# EAGLE library part MAX6921 (library FHD-Actives)
MAX6921 - VFD Driver (20 outputs)
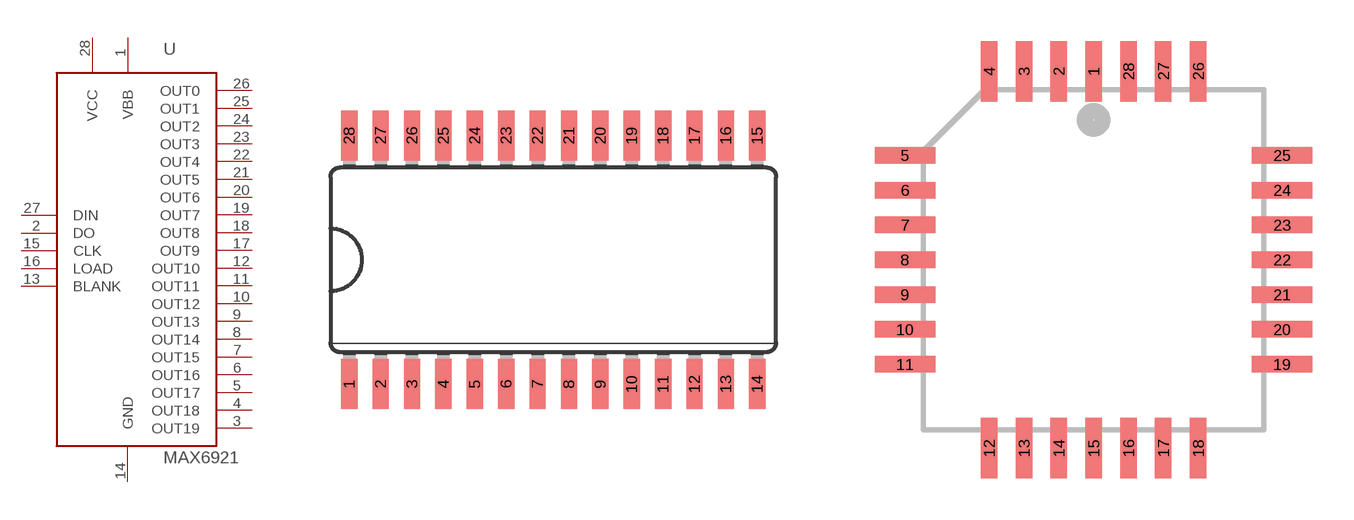
[diagram p1: symbol with the pads of SO-28W; footprints SO-28W, PLCC28S]

Designator prefix -

## MAX6921AWI  [SO-28W]
1  VBB  pwr
2  DO  in
3  OUT19
4  OUT18
5  OUT17
6  OUT16
7  OUT15
8  OUT14
9  OUT13
10  OUT12
11  OUT11
12  OUT10
13  BLANK  in
14  GND
15  CLK  in
16  LOAD  in
17  OUT9
18  OUT8
19  OUT7
20  OUT6
21  OUT5
22  OUT4
23  OUT3
24  OUT2
25  OUT1
26  OUT0
27  DIN  in
28  VCC  pwr

## MAX6921AQI  [PLCC28S]
Pads as for SO-28W

## Footprint SO-28W (pad centres in mm)
Small Outline Package 28 wide
smd 0.66 x 2.032: 1 -8.255,-5.029; 2 -6.985,-5.029; 3 -5.715,-5.029; 4 -4.445,-5.029; 5 -3.175,-5.029; 6 -1.905,-5.029; 7 -0.635,-5.029; 8 0.635,-5.029; 9 1.905,-5.029; 10 3.175,-5.029; 11 4.445,-5.029; 12 5.715,-5.029; 13 6.985,-5.029; 14 8.255,-5.029; 15 8.255,5.029; 16 6.985,5.029; 17 5.715,5.029; 18 4.445,5.029; 19 3.175,5.029; 20 1.905,5.029; 21 0.635,5.029; 22 -0.635,5.029; 23 -1.905,5.029; 24 -3.175,5.029; 25 -4.445,5.029; 26 -5.715,5.029; 27 -6.985,5.029; 28 -8.255,5.029

## Footprint PLCC28S (pad centres in mm)
PLASTIC LEADED CHIP CARRIER square
smd 0.6 x 2.2: 1 0,6.87; 2 -1.27,6.87; 3 -2.54,6.87; 4 -3.81,6.87; 12 -3.81,-6.87; 13 -2.54,-6.87; 14 -1.27,-6.87; 15 0,-6.87; 16 1.27,-6.87; 17 2.54,-6.87; 18 3.81,-6.87; 26 3.81,6.87; 27 2.54,6.87; 28 1.27,6.87
smd 2.2 x 0.6: 5 -6.87,3.81; 6 -6.87,2.54; 7 -6.87,1.27; 8 -6.87,0; 9 -6.87,-1.27; 10 -6.87,-2.54; 11 -6.87,-3.81; 19 6.87,-3.81; 20 6.87,-2.54; 21 6.87,-1.27; 22 6.87,0; 23 6.87,1.27; 24 6.87,2.54; 25 6.87,3.81